# Altium footprint library uPre Footprint Lib.PcbLib: 1 footprints
Each footprint in its own frame and in the unit in brackets; x right, y up, seen from the top. Pads: shape width x height; smd on the part's side, far side on the other; paste and mask are expansions set on the pad; w line width, h text height; cw(c..) or ccw(c..) is an arc to the next point about the centre after c.
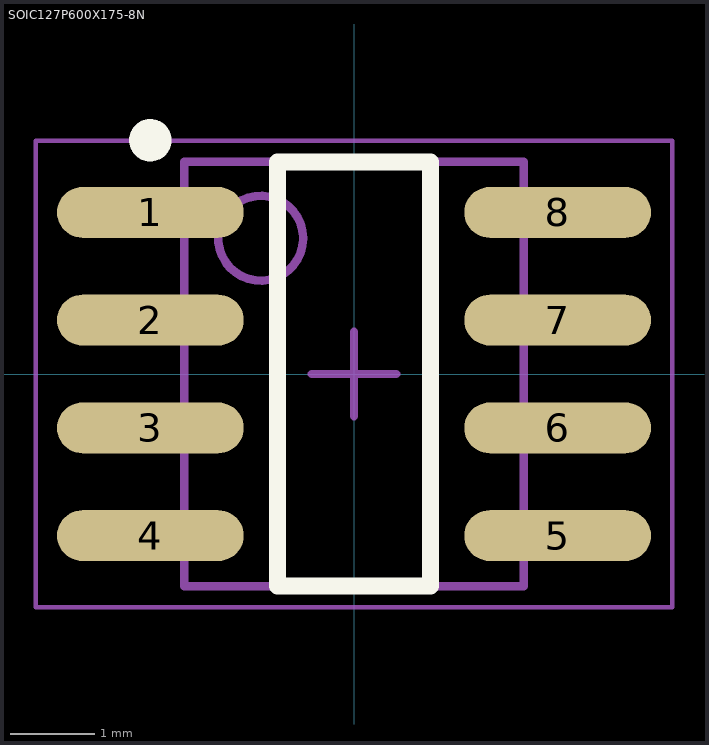
[diagram p0: the footprint, top view; thin cyan lines are the x and y axes]

## SOIC127P600X175-8N [mm] "SOIC, 8-Leads, Body 4.75x3.90mm, Pitch 1.27mm, IPC Medium Density"
height 1.75
pads (8):
  oval 2.2x0.6 smd: 1(-2.4,1.905) 2(-2.4,0.635) 3(-2.4,-0.635) 4(-2.4,-1.905) 5(2.4,-1.905) 6(2.4,-0.635) 7(2.4,0.635) 8(2.4,1.905)
Top Overlay:
  circle w0.25: c-2.4,2.755 r0.125
  lines w0.2: -0.9,-2.5 0.9,-2.5 0.9,2.5 -0.9,2.5 -0.9,-2.5
Mechanical 13:
  circle w0.1: c-1.1,1.6 r0.5
  lines w0.1: -2,-2.5 2,-2.5 2,2.5 -2,2.5 -2,-2.5
Mechanical 15:
  lines w0.05: -3.75,-2.75 3.75,-2.75 3.75,2.75 -3.75,2.75 -3.75,-2.75
  lines w0.1: -0.5,0 0.5,0 ; 0,-0.5 0,0.5
3D body: height 1.75, standoff 0.25, extent -2,-2.5 2,2.5